# EAGLE library part 74*3253 (library NewSDR)
Dual 4:1 Analog Mux/Demux
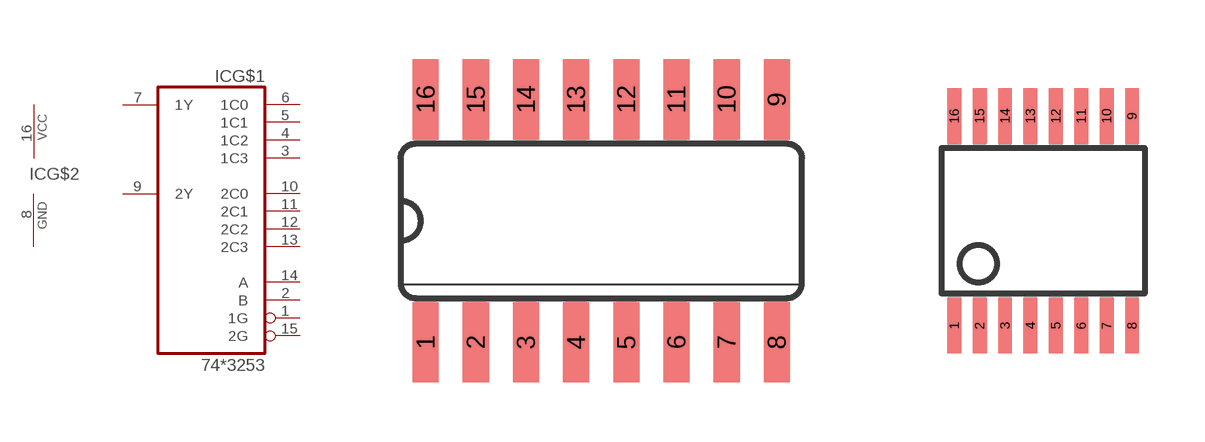
[diagram p19: symbol with the pads of SO16; footprints SO16, QSOP16]

Designator prefix IC; gates G$1=DUAL4TO1MUX G$2=VCCAGND

## 74CBT3253DB, 74CBTLV3253DB  [SO16]
1  G$1:1G  in
2  G$1:B  in
3  G$1:1C3  in
4  G$1:1C2  in
5  G$1:1C1  in
6  G$1:1C0  in
7  G$1:1Y  hiz
8  G$2:GND  pwr
9  G$1:2Y  hiz
10  G$1:2C0  in
11  G$1:2C1  in
12  G$1:2C2  in
13  G$1:2C3  in
14  G$1:A  in
15  G$1:2G  in
16  G$2:VCC  pwr

## 74CB3Q3253DBQ, 74CBT3253DBQ, 74CBTLV3253DBQ  [QSOP16]
Pads as for SO16

## 74CB3Q3253PW, 74CBT3253PW, 74CBTLV3253PW  [TSSOP16B]
Pads as for SO16

## Footprint SO16 (pad centres in mm)
Small Outline package 150 mil
smd 0.66 x 2.032: 1 -4.445,-3.073; 2 -3.175,-3.073; 3 -1.905,-3.073; 4 -0.635,-3.073; 5 0.635,-3.073; 6 1.905,-3.073; 7 3.175,-3.073; 8 4.445,-3.073; 9 4.445,3.073; 10 3.175,3.073; 11 1.905,3.073; 12 0.635,3.073; 13 -0.635,3.073; 14 -1.905,3.073; 15 -3.175,3.073; 16 -4.445,3.073

## Footprint QSOP16 (pad centres in mm)
QSOP 16-Pin Small Shrink Outline Package
smd 0.348 x 1.397: 1 -2.223,-2.619; 2 -1.588,-2.62; 3 -0.953,-2.62; 4 -0.318,-2.62; 5 0.318,-2.62; 6 0.953,-2.62; 7 1.588,-2.62; 8 2.223,-2.62; 9 2.223,2.62; 10 1.588,2.62; 11 0.953,2.62; 12 0.318,2.62; 13 -0.318,2.62; 14 -0.953,2.62; 15 -1.588,2.62; 16 -2.223,2.62

## Footprint TSSOP16B (pad centres in mm)
smd 0.305 x 0.991: 1 -2.275,-2.918; 2 -1.625,-2.918; 3 -0.975,-2.918; 4 -0.325,-2.918; 5 0.325,-2.918; 6 0.975,-2.918; 7 1.625,-2.918; 8 2.275,-2.918; 9 2.275,2.918; 10 1.625,2.918; 11 0.975,2.918; 12 0.325,2.918; 13 -0.325,2.918; 14 -0.975,2.918; 15 -1.625,2.918; 16 -2.275,2.918